# EAGLE library part ETHER_BRKOUT (library ETHER_BRKOUT)
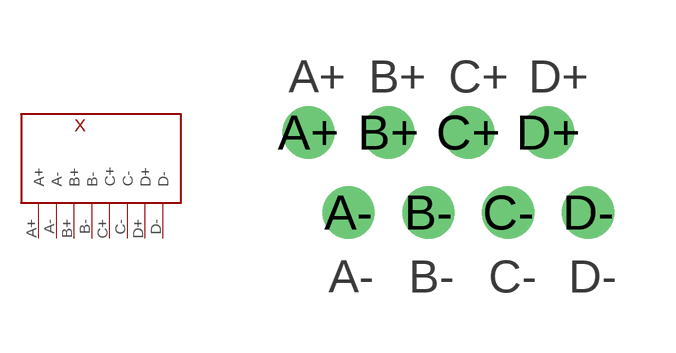
[diagram p0: symbol with the pads of ETHER_BRKOUT; footprint ETHER_BRKOUT]

Designator prefix X

## ETHER_BRKOUT  [ETHER_BRKOUT]
A+  A+
A-  A-
B+  B+
B-  B-
C+  C+
C-  C-
D+  D+
D-  D-

## Footprint ETHER_BRKOUT (pad centres in mm)
drill 0.8: A+ -3,1; A- -2,-1; B+ -1,1; B- 0,-1; C+ 1,1; C- 2,-1; D+ 3,1; D- 4,-1